# Altium footprint library MTE380_Lib1.PcbLib: 2 footprints
Each footprint in its own frame and in the unit in brackets; x right, y up, seen from the top. Pads: shape width x height; smd on the part's side, far side on the other; paste and mask are expansions set on the pad; w line width, h text height; cw(c..) or ccw(c..) is an arc to the next point about the centre after c.
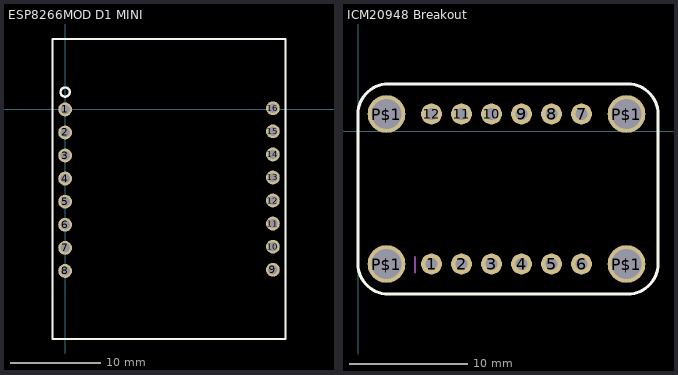
[diagram p0: the footprints below, top view; thin cyan lines are the x and y axes]

## ESP8266MOD D1 MINI [mil] "ESP8266MOD D1 MINI Wi-Fi Module"
pads (16):
  round 60 hole 40: 1(0,0) 2(0,-100) 3(0,-200) 4(0,-300) 5(0,-400) 6(0,-500) 7(0,-600) 8(0,-700) 9(900,-695) 10(900,-595) 11(900,-495) 12(900,-395) 13(900,-295) 14(900,-195) 15(900,-95) 16(900,5)
Top Overlay:
  circle w10: c0,75 r20
  lines w10: -55,-995 -55,305 955,305 955,-995 -55,-995

## ICM20948 Breakout [mil] "ICM20948 Breakout Footprint"
pads (16):
  round 70 hole 39.37: 1(245,-443) 2(345,-443) 3(445,-443) 4(545,-443) 5(645,-443) 6(745,-443) 7(745,57) 8(645,57) 9(545,57) 10(445,57) 11(345,57) 12(245,57)
  round 125.98 hole 98.43: P$1(95,-443) P$1(95,57) P$1(895,-443) P$1(895,57)
Top Overlay:
  lines w10: 0,-443 ccw(c100,-443) 100,-543 900,-543 ccw(c900,-443) 1000,-443 1000,57 ccw(c900,57) 900,157 100,157 ccw(c100,57) 0,57 0,-443
Mechanical 3:
  lines w8: 190,-470 190,-420